# Altium schematic symbol library MISCELANOUS.SchLib: 5 symbols
Pins are listed as number, name and electrical type; pins without a type are passive.

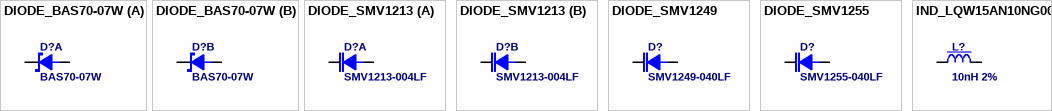
[diagram p0: symbols DIODE_BAS70-07W to IND_LQW15AN10NG00D]

## DIODE_BAS70-07W
designator D?, comment BAS70-07W
General-purpose diode for high-speed switching
footprint SOT135P210X100-4N (SOT343, 4-Leads, Body 2,00x2,10mm, Pitch 1,35mm, IPC Medium Density)
part A pins: 1 K, 4 A
part B pins: 2 K, 3 A

## DIODE_SMV1213
designator D?, comment SMV1213-004LF
Hyperabrupt Junction Tuning Varactors , double, common cathode
footprint SOT23
part A pins: 1 A, 3 K
part B pins: 2 A, 3 K

## DIODE_SMV1249
designator D?, comment SMV1249-040LF
Hyperabrupt Junction Tuning / Varactor, SOD-882 package, LS=0.45nH, Vr max 15V, If 20mA, Pdis 250mW, operating temperature -55 +150C, Q @ 3V & 50MHz 600 (typ), Ct 31pF @ 0.3V, 2.6pF @ 4.7V
footprint SOD-882 (SOD-882, 2-Leads, Body 0,60x1mm, IPC High Density)
pins: 1 K, 2 A

## DIODE_SMV1255
designator D?, comment SMV1255-040LF
Hyperabrupt Junction Tuning / Varactor, SOD-882 package, LS=0.45nH, Vr max 15V, If 20mA, Pdis 250mW, operating temperature -55 +150C, Q @ 3V & 50MHz 350 (typ), Ct 64pF @ 0.3V, 5.2pF @ 4.7V
footprint SOD-882 (SOD-882, 2-Leads, Body 0,60x1mm, IPC High Density)
pins: 1 K, 2 A

## IND_LQW15AN10NG00D
designator L?, comment 10nH 2%
Murata Wirewound inductor 0402 package, 170mOhms, 500mA Q>25, self resonant freq. 5.5GHz, -55 +125C range
footprint R0402
pins: 1, 2